# Altium schematic symbol library kmilo17pet-LT_PMIC_LT.SchLib: 2252 symbols (part 84 of 124)
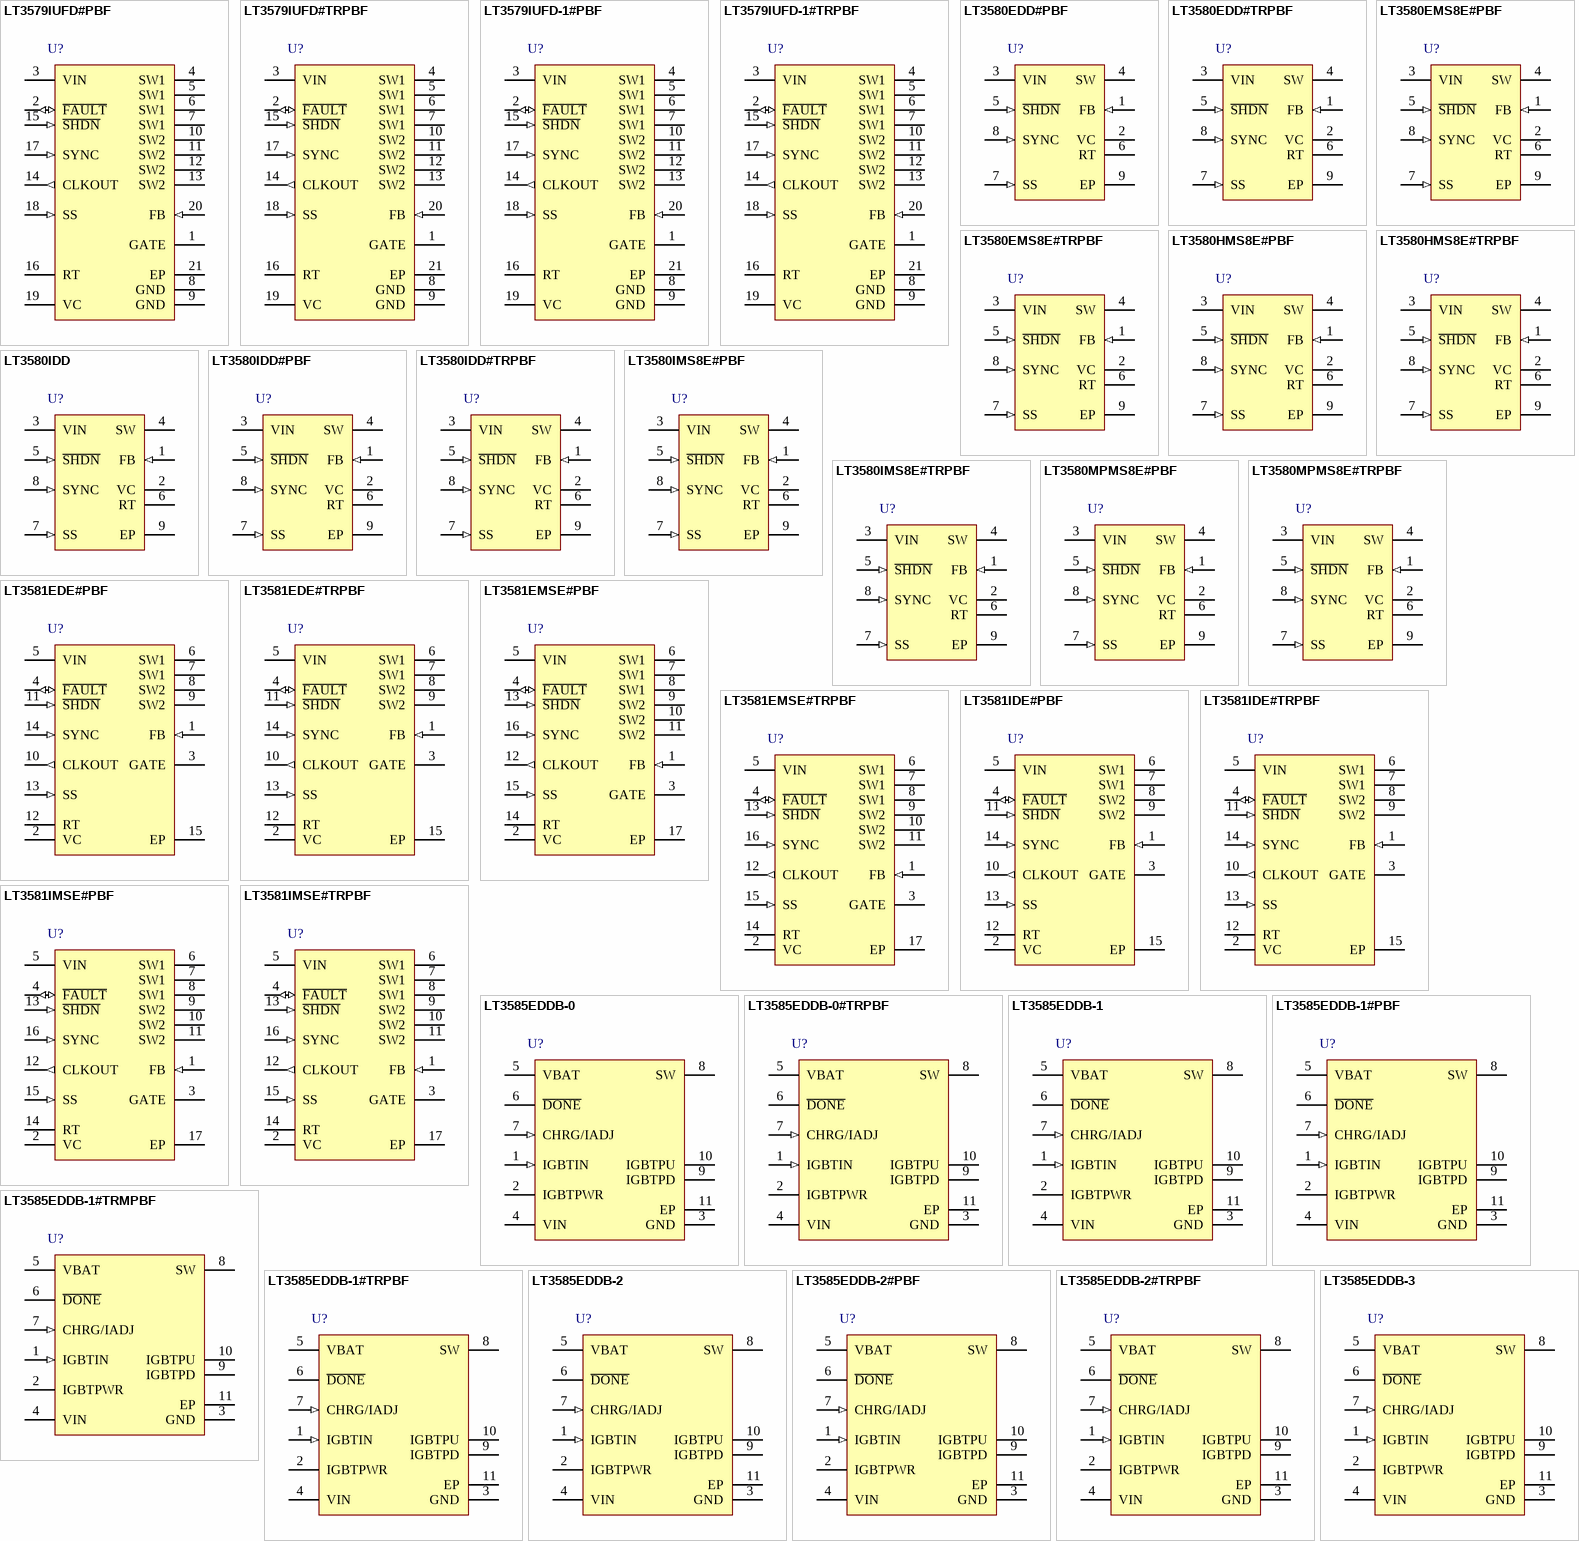
[diagram p154: symbols LT3579IUFD#PBF to LT3585EDDB-3]

## LT3585EDDB-1#TRMPBF
designator U?
Photoflash Charger with Adjustable Input Current and IGBT Driver, 10-pin SON (DDB-10), -40 to 85 degC, Pb-Free, Mini Tape and Reel; Manufacturer: Linear Technology; PartNumber: LT3585EDDB-1#TRMPBF; Number of Outputs: 1; PackageReference: DDB10; PackageDescription: 10-Pin Plastic DFN, Body 3 x 2 mm, Pitch 0.5 mm; Supplier 1: Digi-Key; Supplier Part Number 1: LT3585EDDB-1#TRMPBF-ND; RoHS: TRUE
footprint LT-DDB-10_V (SON, 10-Leads, Body 3x2mm, Pitch 0.5mm, Thermal Pad 2.39x0.64mm)
pins: 1 IGBTIN (in) "Logic Input for the IGBT Driver. When this pin is driven higher than 1.5V, the output goes high. When the pin is below 0.5V, the output will go low.", 2 IGBTPWR (power) "Supply Pin for the IGBT Driver. Must be locally bypassed with a good quality ceramic capacitor. The minimum operating voltage for the IGBT driver is 2.5V.", 3 GND (power) "Ground. Tie directly to local ground plane.", 4 VIN (power) "Input Supply Pin. Must be locally bypassed with a good quality ceramic capacitor. The minimum operating voltage for VIN is 2.5V.", 5 VBAT (power) "Battery Supply Pin. Must be locally bypassed with a good quality ceramic capacitor. The minimum operating voltage for VBAT is 1.5V.", 6 ~{DONE} (oc) "Open NPN Collector Indication Pin. When target output voltage is reached, NPN turns on. This pin needs a proper pull-up resistor or current source.", 7 CHRG/IADJ (in) "Charge and Input Current Adjust Pin. A low (<0.3V) to high (>1.1V) transition on this pin puts the part into power delivery mode. Once the target output voltage is reached, the part will stop charging the output. Toggle this (See Datasheet)", 8 SW (power) "Switch Pin. This is the collector of the internal NPN Power switch. Minimize the metal trace area connected to this pin to minimize EMI. Tie one side of the primary of the transformer to this pin. The target output voltage (See Datasheet)", 9 IGBTPD (oc) "Pull-down Output for IGBT Gate. Connect this pin to the IGBT Gate. Add a series resistor to increase the turn-off time to protect the IGBT.", 10 IGBTPU (oe) "Pull-up Output for IGBT Gate. Connect this pin to the gate of the IGBT.", 11 EP (power) "Ground. Tie directly to local ground plane."

## LT3585EDDB-1#TRPBF
designator U?
Photoflash Charger with Adjustable Input Current and IGBT Driver, 10-pin SON (DDB-10), -40 to 85 degC, Pb-Free, Tape and Reel; Manufacturer: Linear Technology; PartNumber: LT3585EDDB-1#TRPBF; Number of Outputs: 1; PackageReference: DDB10; PackageDescription: 10-Pin Plastic DFN, Body 3 x 2 mm, Pitch 0.5 mm; Supplier 1: Digi-Key; Supplier Part Number 1: LT3585EDDB-1#TRPBF-ND; RoHS: TRUE
footprint LT-DDB-10_V (SON, 10-Leads, Body 3x2mm, Pitch 0.5mm, Thermal Pad 2.39x0.64mm)
pins: 1 IGBTIN (in) "Logic Input for the IGBT Driver. When this pin is driven higher than 1.5V, the output goes high. When the pin is below 0.5V, the output will go low.", 2 IGBTPWR (power) "Supply Pin for the IGBT Driver. Must be locally bypassed with a good quality ceramic capacitor. The minimum operating voltage for the IGBT driver is 2.5V.", 3 GND (power) "Ground. Tie directly to local ground plane.", 4 VIN (power) "Input Supply Pin. Must be locally bypassed with a good quality ceramic capacitor. The minimum operating voltage for VIN is 2.5V.", 5 VBAT (power) "Battery Supply Pin. Must be locally bypassed with a good quality ceramic capacitor. The minimum operating voltage for VBAT is 1.5V.", 6 ~{DONE} (oc) "Open NPN Collector Indication Pin. When target output voltage is reached, NPN turns on. This pin needs a proper pull-up resistor or current source.", 7 CHRG/IADJ (in) "Charge and Input Current Adjust Pin. A low (<0.3V) to high (>1.1V) transition on this pin puts the part into power delivery mode. Once the target output voltage is reached, the part will stop charging the output. Toggle this (See Datasheet)", 8 SW (power) "Switch Pin. This is the collector of the internal NPN Power switch. Minimize the metal trace area connected to this pin to minimize EMI. Tie one side of the primary of the transformer to this pin. The target output voltage (See Datasheet)", 9 IGBTPD (oc) "Pull-down Output for IGBT Gate. Connect this pin to the IGBT Gate. Add a series resistor to increase the turn-off time to protect the IGBT.", 10 IGBTPU (oe) "Pull-up Output for IGBT Gate. Connect this pin to the gate of the IGBT.", 11 EP (power) "Ground. Tie directly to local ground plane."

## LT3585EDDB-2
designator U?
Photoflash Charger with Adjustable Input Current and IGBT Driver, 10-pin SON (DDB-10), -40 to 85 degC; Manufacturer: Linear Technology; PartNumber: LT3585EDDB-2; Number of Outputs: 1; PackageReference: DDB10; PackageDescription: 10-Pin Plastic DFN, Body 3 x 2 mm, Pitch 0.5 mm; RoHS: FALSE
footprint LT-DDB-10_V (SON, 10-Leads, Body 3x2mm, Pitch 0.5mm, Thermal Pad 2.39x0.64mm)
pins: 1 IGBTIN (in) "Logic Input for the IGBT Driver. When this pin is driven higher than 1.5V, the output goes high. When the pin is below 0.5V, the output will go low.", 2 IGBTPWR (power) "Supply Pin for the IGBT Driver. Must be locally bypassed with a good quality ceramic capacitor. The minimum operating voltage for the IGBT driver is 2.5V.", 3 GND (power) "Ground. Tie directly to local ground plane.", 4 VIN (power) "Input Supply Pin. Must be locally bypassed with a good quality ceramic capacitor. The minimum operating voltage for VIN is 2.5V.", 5 VBAT (power) "Battery Supply Pin. Must be locally bypassed with a good quality ceramic capacitor. The minimum operating voltage for VBAT is 1.5V.", 6 ~{DONE} (oc) "Open NPN Collector Indication Pin. When target output voltage is reached, NPN turns on. This pin needs a proper pull-up resistor or current source.", 7 CHRG/IADJ (in) "Charge and Input Current Adjust Pin. A low (<0.3V) to high (>1.1V) transition on this pin puts the part into power delivery mode. Once the target output voltage is reached, the part will stop charging the output. Toggle this (See Datasheet)", 8 SW (power) "Switch Pin. This is the collector of the internal NPN Power switch. Minimize the metal trace area connected to this pin to minimize EMI. Tie one side of the primary of the transformer to this pin. The target output voltage (See Datasheet)", 9 IGBTPD (oc) "Pull-down Output for IGBT Gate. Connect this pin to the IGBT Gate. Add a series resistor to increase the turn-off time to protect the IGBT.", 10 IGBTPU (oe) "Pull-up Output for IGBT Gate. Connect this pin to the gate of the IGBT.", 11 EP (power) "Ground. Tie directly to local ground plane."

## LT3585EDDB-2#PBF
designator U?
Photoflash Charger with Adjustable Input Current and IGBT Driver, 10-pin SON (DDB-10), -40 to 85 degC, Pb-Free; Manufacturer: Linear Technology; PartNumber: LT3585EDDB-2#PBF; Number of Outputs: 1; PackageReference: DDB10; PackageDescription: 10-Pin Plastic DFN, Body 3 x 2 mm, Pitch 0.5 mm; RoHS: TRUE
footprint LT-DDB-10_V (SON, 10-Leads, Body 3x2mm, Pitch 0.5mm, Thermal Pad 2.39x0.64mm)
pins: 1 IGBTIN (in) "Logic Input for the IGBT Driver. When this pin is driven higher than 1.5V, the output goes high. When the pin is below 0.5V, the output will go low.", 2 IGBTPWR (power) "Supply Pin for the IGBT Driver. Must be locally bypassed with a good quality ceramic capacitor. The minimum operating voltage for the IGBT driver is 2.5V.", 3 GND (power) "Ground. Tie directly to local ground plane.", 4 VIN (power) "Input Supply Pin. Must be locally bypassed with a good quality ceramic capacitor. The minimum operating voltage for VIN is 2.5V.", 5 VBAT (power) "Battery Supply Pin. Must be locally bypassed with a good quality ceramic capacitor. The minimum operating voltage for VBAT is 1.5V.", 6 ~{DONE} (oc) "Open NPN Collector Indication Pin. When target output voltage is reached, NPN turns on. This pin needs a proper pull-up resistor or current source.", 7 CHRG/IADJ (in) "Charge and Input Current Adjust Pin. A low (<0.3V) to high (>1.1V) transition on this pin puts the part into power delivery mode. Once the target output voltage is reached, the part will stop charging the output. Toggle this (See Datasheet)", 8 SW (power) "Switch Pin. This is the collector of the internal NPN Power switch. Minimize the metal trace area connected to this pin to minimize EMI. Tie one side of the primary of the transformer to this pin. The target output voltage (See Datasheet)", 9 IGBTPD (oc) "Pull-down Output for IGBT Gate. Connect this pin to the IGBT Gate. Add a series resistor to increase the turn-off time to protect the IGBT.", 10 IGBTPU (oe) "Pull-up Output for IGBT Gate. Connect this pin to the gate of the IGBT.", 11 EP (power) "Ground. Tie directly to local ground plane."

## LT3585EDDB-2#TRPBF
designator U?
Photoflash Charger with Adjustable Input Current and IGBT Driver, 10-pin SON (DDB-10), -40 to 85 degC, Pb-Free, Tape and Reel; Manufacturer: Linear Technology; PartNumber: LT3585EDDB-2#TRPBF; Number of Outputs: 1; PackageReference: DDB10; PackageDescription: 10-Pin Plastic DFN, Body 3 x 2 mm, Pitch 0.5 mm; Supplier 1: Digi-Key; Supplier Part Number 1: LT3585EDDB-2#TRPBF-ND; RoHS: TRUE
footprint LT-DDB-10_V (SON, 10-Leads, Body 3x2mm, Pitch 0.5mm, Thermal Pad 2.39x0.64mm)
pins: 1 IGBTIN (in) "Logic Input for the IGBT Driver. When this pin is driven higher than 1.5V, the output goes high. When the pin is below 0.5V, the output will go low.", 2 IGBTPWR (power) "Supply Pin for the IGBT Driver. Must be locally bypassed with a good quality ceramic capacitor. The minimum operating voltage for the IGBT driver is 2.5V.", 3 GND (power) "Ground. Tie directly to local ground plane.", 4 VIN (power) "Input Supply Pin. Must be locally bypassed with a good quality ceramic capacitor. The minimum operating voltage for VIN is 2.5V.", 5 VBAT (power) "Battery Supply Pin. Must be locally bypassed with a good quality ceramic capacitor. The minimum operating voltage for VBAT is 1.5V.", 6 ~{DONE} (oc) "Open NPN Collector Indication Pin. When target output voltage is reached, NPN turns on. This pin needs a proper pull-up resistor or current source.", 7 CHRG/IADJ (in) "Charge and Input Current Adjust Pin. A low (<0.3V) to high (>1.1V) transition on this pin puts the part into power delivery mode. Once the target output voltage is reached, the part will stop charging the output. Toggle this (See Datasheet)", 8 SW (power) "Switch Pin. This is the collector of the internal NPN Power switch. Minimize the metal trace area connected to this pin to minimize EMI. Tie one side of the primary of the transformer to this pin. The target output voltage (See Datasheet)", 9 IGBTPD (oc) "Pull-down Output for IGBT Gate. Connect this pin to the IGBT Gate. Add a series resistor to increase the turn-off time to protect the IGBT.", 10 IGBTPU (oe) "Pull-up Output for IGBT Gate. Connect this pin to the gate of the IGBT.", 11 EP (power) "Ground. Tie directly to local ground plane."

## LT3585EDDB-3
designator U?
Photoflash Charger with Adjustable Input Current and IGBT Driver, 10-pin SON (DDB-10), -40 to 85 degC; Manufacturer: Linear Technology; PartNumber: LT3585EDDB-3; Number of Outputs: 1; PackageReference: DDB10; PackageDescription: 10-Pin Plastic DFN, Body 3 x 2 mm, Pitch 0.5 mm; RoHS: FALSE
footprint LT-DDB-10_V (SON, 10-Leads, Body 3x2mm, Pitch 0.5mm, Thermal Pad 2.39x0.64mm)
pins: 1 IGBTIN (in) "Logic Input for the IGBT Driver. When this pin is driven higher than 1.5V, the output goes high. When the pin is below 0.5V, the output will go low.", 2 IGBTPWR (power) "Supply Pin for the IGBT Driver. Must be locally bypassed with a good quality ceramic capacitor. The minimum operating voltage for the IGBT driver is 2.5V.", 3 GND (power) "Ground. Tie directly to local ground plane.", 4 VIN (power) "Input Supply Pin. Must be locally bypassed with a good quality ceramic capacitor. The minimum operating voltage for VIN is 2.5V.", 5 VBAT (power) "Battery Supply Pin. Must be locally bypassed with a good quality ceramic capacitor. The minimum operating voltage for VBAT is 1.5V.", 6 ~{DONE} (oc) "Open NPN Collector Indication Pin. When target output voltage is reached, NPN turns on. This pin needs a proper pull-up resistor or current source.", 7 CHRG/IADJ (in) "Charge and Input Current Adjust Pin. A low (<0.3V) to high (>1.1V) transition on this pin puts the part into power delivery mode. Once the target output voltage is reached, the part will stop charging the output. Toggle this (See Datasheet)", 8 SW (power) "Switch Pin. This is the collector of the internal NPN Power switch. Minimize the metal trace area connected to this pin to minimize EMI. Tie one side of the primary of the transformer to this pin. The target output voltage (See Datasheet)", 9 IGBTPD (oc) "Pull-down Output for IGBT Gate. Connect this pin to the IGBT Gate. Add a series resistor to increase the turn-off time to protect the IGBT.", 10 IGBTPU (oe) "Pull-up Output for IGBT Gate. Connect this pin to the gate of the IGBT.", 11 EP (power) "Ground. Tie directly to local ground plane."

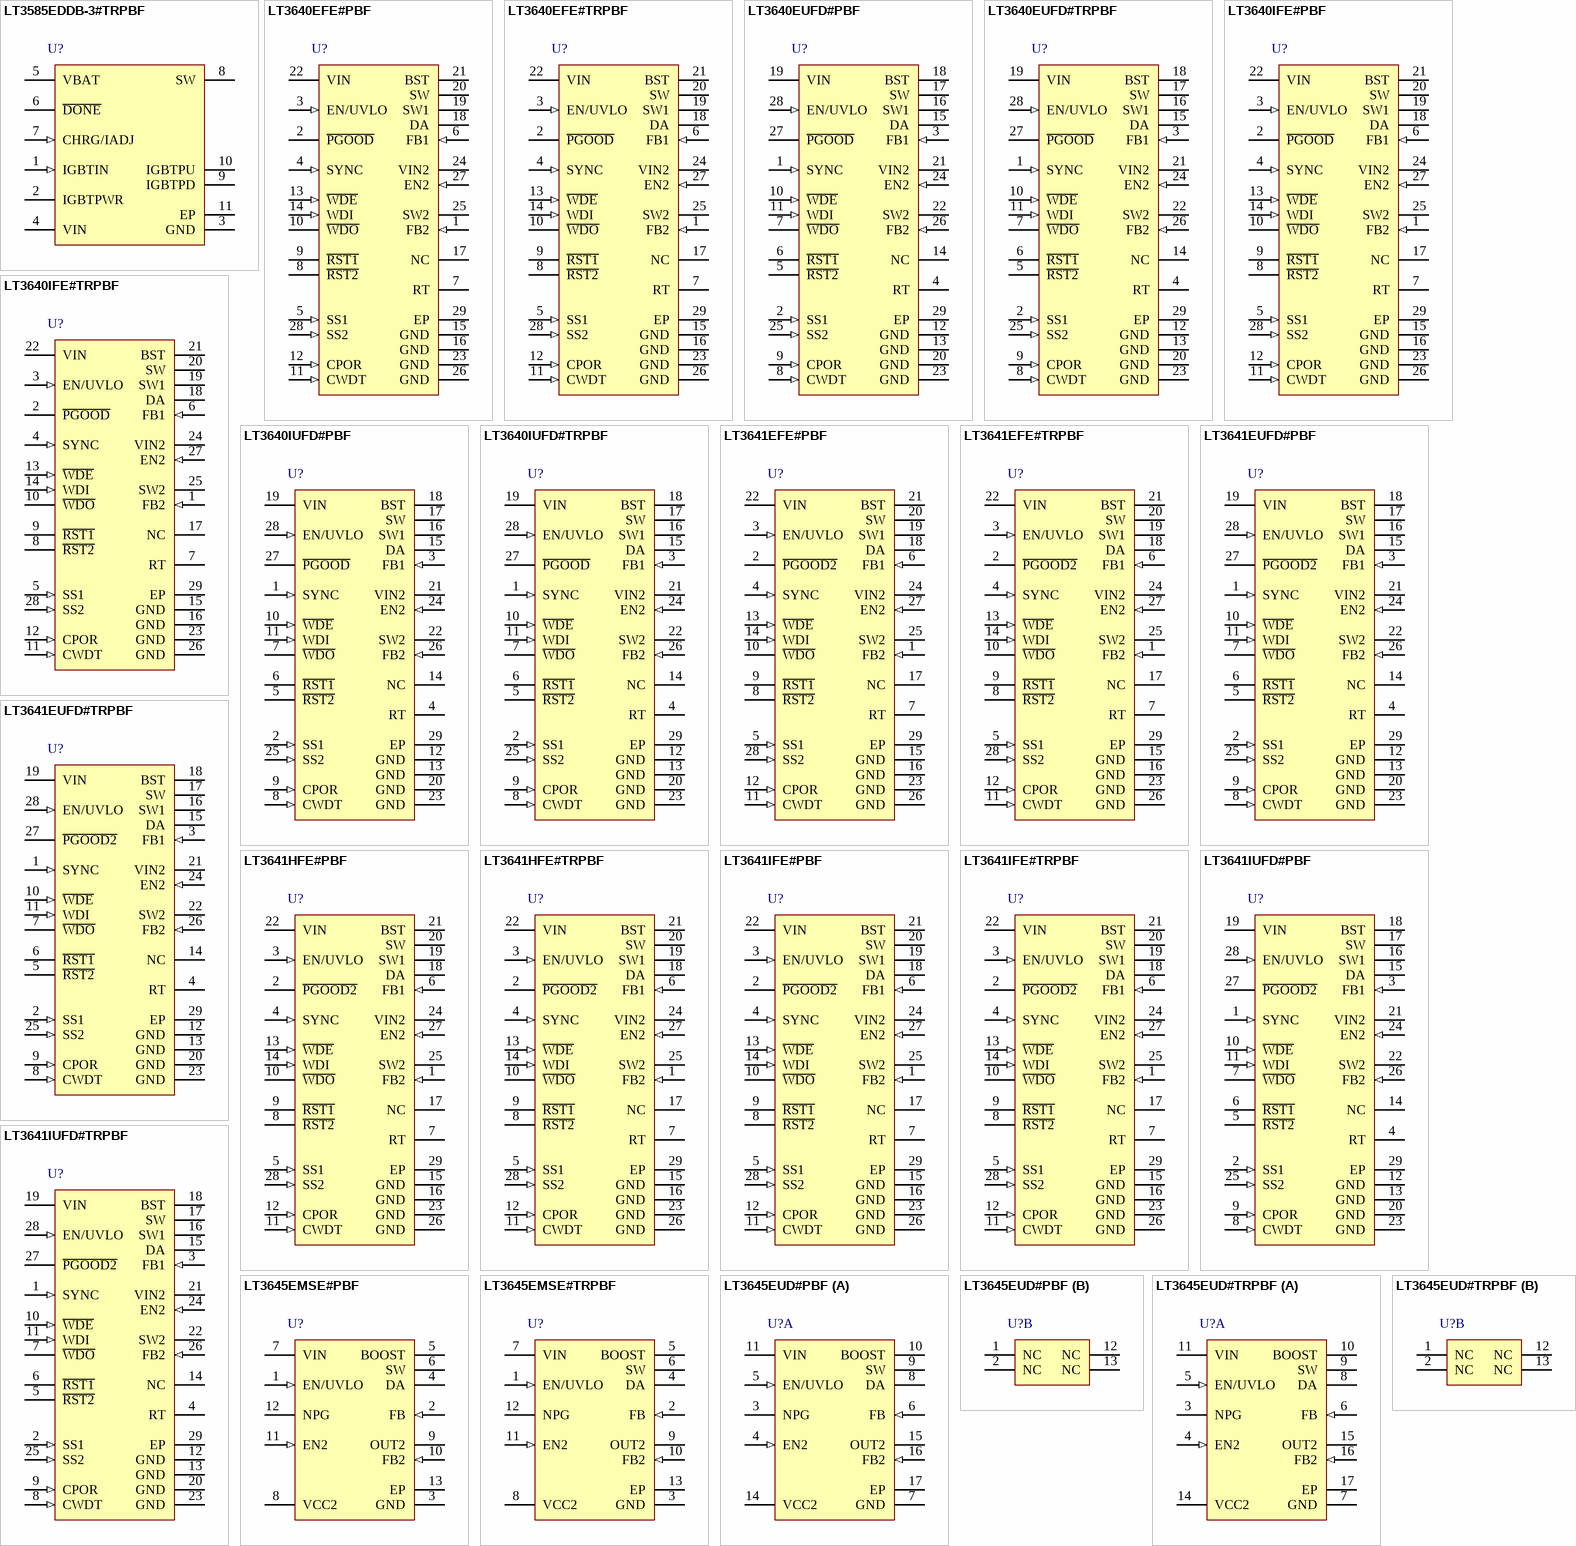
[diagram p50: symbols LT3585EDDB-3#TRPBF to LT3645EUD#TRPBF]

## LT3585EDDB-3#TRPBF
designator U?
Photoflash Charger with Adjustable Input Current and IGBT Driver, 10-pin SON (DDB-10), -40 to 85 degC, Pb-Free, Tape and Reel; Manufacturer: Linear Technology; PartNumber: LT3585EDDB-3#TRPBF; Number of Outputs: 1; PackageReference: DDB10; PackageDescription: 10-Pin Plastic DFN, Body 3 x 2 mm, Pitch 0.5 mm; Supplier 1: Digi-Key; Supplier Part Number 1: LT3585EDDB-3#TRPBF-ND; RoHS: TRUE
footprint LT-DDB-10_V (SON, 10-Leads, Body 3x2mm, Pitch 0.5mm, Thermal Pad 2.39x0.64mm)
pins: 1 IGBTIN (in) "Logic Input for the IGBT Driver. When this pin is driven higher than 1.5V, the output goes high. When the pin is below 0.5V, the output will go low.", 2 IGBTPWR (power) "Supply Pin for the IGBT Driver. Must be locally bypassed with a good quality ceramic capacitor. The minimum operating voltage for the IGBT driver is 2.5V.", 3 GND (power) "Ground. Tie directly to local ground plane.", 4 VIN (power) "Input Supply Pin. Must be locally bypassed with a good quality ceramic capacitor. The minimum operating voltage for VIN is 2.5V.", 5 VBAT (power) "Battery Supply Pin. Must be locally bypassed with a good quality ceramic capacitor. The minimum operating voltage for VBAT is 1.5V.", 6 ~{DONE} (oc) "Open NPN Collector Indication Pin. When target output voltage is reached, NPN turns on. This pin needs a proper pull-up resistor or current source.", 7 CHRG/IADJ (in) "Charge and Input Current Adjust Pin. A low (<0.3V) to high (>1.1V) transition on this pin puts the part into power delivery mode. Once the target output voltage is reached, the part will stop charging the output. Toggle this (See Datasheet)", 8 SW (power) "Switch Pin. This is the collector of the internal NPN Power switch. Minimize the metal trace area connected to this pin to minimize EMI. Tie one side of the primary of the transformer to this pin. The target output voltage (See Datasheet)", 9 IGBTPD (oc) "Pull-down Output for IGBT Gate. Connect this pin to the IGBT Gate. Add a series resistor to increase the turn-off time to protect the IGBT.", 10 IGBTPU (oe) "Pull-up Output for IGBT Gate. Connect this pin to the gate of the IGBT.", 11 EP (power) "Ground. Tie directly to local ground plane."

## LT3640EFE#PBF
designator U?
Dual Monolithic Buck Regulator with Power-On Reset and Watchdog Timer, 28-pin SOP (FE-28-EPV-EB), -40 to 125 degC, Pb-Free; Manufacturer: Linear Technology; PartNumber: LT3640EFE#PBF; Number of Outputs: 2; PackageReference: FE-28; PackageDescription: 28-Pin Plastic TSSOP, Body 9.7 x 4.4 mm, Pitch 0.65 mm; Supplier 1: Digi-Key; Supplier Part Number 1: LT3640EFE#PBF-ND; RoHS: TRUE
footprint LT-FE-28-EPV-EB_N (SOP, 28-Leads, Body 9.8x4.5mm, Pitch 0.65mm, Thermal Pad 4.75x2.74mm, IPC Medium Density)
footprint LT-FE-28-EPV-EB_L (SOP, 28-Leads, Body 9.8x4.5mm, Pitch 0.65mm, Thermal Pad 4.75x2.74mm, IPC High Density)
footprint LT-FE-28-EPV-EB_M (SOP, 28-Leads, Body 9.8x4.5mm, Pitch 0.65mm, Thermal Pad 4.75x2.74mm, IPC Low Density)
pins: 1 FB2 (in) "The low voltage converter regulates the FB2 pin to 600mV. Connect the feedback resistor divider tap to this pin to set output voltage.", 2 ~{PGOOD} (oc) "Open-drain logic output that starts to sink current when FB2 is in regulation.", 3 EN/UVLO (in) "Pull this pin below 0.3V to shut down the LT3640. The 1.26V threshold can function as an accurate undervoltage lockout, preventing the LT3640 from operating until VIN voltage has reached the programmed level.", 4 SYNC (in) "Driving the SYNC pin with an external clock signal synchronizes both converters to the applied frequency. The lowest external clock frequency should be 20% higher than the internal oscillator frequency.", 5 SS1 (in) "The SS1 pin sets the FB1 voltage externally between 0V and 1.265V, providing soft-start and tracking. Tie this pin 1.5V or higher to use the internal 1.265V reference. A capacitor to ground at this pin sets the ramp time to (See Datasheet)", 6 FB1 (in) "The high voltage converter regulates the FB1 pin to 1.265V. Connect the feedback resistor divider tap to this pin to set output voltage.", 7 RT "Oscillator Resistor Input. Connecting a resistor to ground from this pin sets the internal oscillator frequency.", 8 ~{RST2} (oc) "Open-drain logic output that remains asserted for the period set by the CPOR pin capacitor after FB2 goes above 550mV.", 9 ~{RST1} (oc) "Open-drain logic output that remains asserted for the period set by the CPOR pin capacitor after FB1 goes above 1.165V.", 10 ~{WDO} (oc) "Open-drain logic output that remains asserted for the period set by the CPOR pin capacitor if W\D\E\ is enabled and WDI pin is not driven by an appropriate signal.", 11 CWDT (in) "Connect a capacitor to ground at this pin to set watchdog timer.", 12 CPOR (in) "Connect a capacitor to ground at this pin to set the power-on reset timer and W\D\O\ output timer.", 13 ~{WDE} (in) "Watchdog Enable Pin.", 14 WDI (in) "The WDI pin receives watchdog signals from a microprocessor.", 15 GND (power) "Ground. These pins must be soldered to PCB ground.", 16 GND (power) "Ground. These pins must be soldered to PCB ground.", 17 NC "Not Connected. This pin can be connected to ground.", 18 DA "The DA pin is used to sense the catch diode current for current limit and protection. Connect this pin to catch diode anode.", 19 SW1 (power) "Output of the High Voltage Internal Power Switch. Connect this pin to the inductor and catch diode cathode.", 20 SW "The SW pin is used to charge the boost capacitor. Connect this pin to the boost capacitor.", 21 BST "The BST pin is used to provide a drive voltage, higher than VIN pin voltage, to the high voltage channel internal power switch. Connect an external boost diode to this pin.", 22 VIN (power) "The VIN pin supplies current to the LT3640’s internal circuitry and to the high voltage channel internal power switch. This pin must be locally bypassed.", 23 GND (power) "Ground. These pins must be soldered to PCB ground.", 24 VIN2 (power) "The VIN2 pin supplies current to the internal power MOSFET of the low voltage converter and to the LT3640’s internal circuitry when VIN2 is above 3V.", 25 SW2 (power) "Switch Node of the Low Voltage Converter. Connect this pin to an inductor.", 26 GND (power) "Ground. These pins must be soldered to PCB ground.", 27 EN2 (in) "Low Voltage Converter Enable Pin. Pull this pin below 0.3V to shut down the low voltage converter. Pull this pin above 1.5V to enable the low voltage converter.", 28 SS2 (in) "The SS2 pin sets the FB2 voltage externally between 0V and 0.6V, providing soft-start and tracking. Tie this pin 0.8V or higher to use the internal 0.6V reference. A capacitor to ground at this pin sets the ramp time to (See Datasheet)", 29 EP (power) "Ground. These pins must be soldered to PCB ground."

## LT3640EFE#TRPBF
designator U?
Dual Monolithic Buck Regulator with Power-On Reset and Watchdog Timer, 28-pin SOP (FE-28-EPV-EB), -40 to 125 degC, Pb-Free, Tape and Reel; Manufacturer: Linear Technology; PartNumber: LT3640EFE#TRPBF; Number of Outputs: 2; PackageReference: FE-28; PackageDescription: 28-Pin Plastic TSSOP, Body 9.7 x 4.4 mm, Pitch 0.65 mm; Supplier 1: Digi-Key; Supplier Part Number 1: LT3640EFE#TRPBF-ND; RoHS: TRUE
footprint LT-FE-28-EPV-EB_N (SOP, 28-Leads, Body 9.8x4.5mm, Pitch 0.65mm, Thermal Pad 4.75x2.74mm, IPC Medium Density)
footprint LT-FE-28-EPV-EB_L (SOP, 28-Leads, Body 9.8x4.5mm, Pitch 0.65mm, Thermal Pad 4.75x2.74mm, IPC High Density)
footprint LT-FE-28-EPV-EB_M (SOP, 28-Leads, Body 9.8x4.5mm, Pitch 0.65mm, Thermal Pad 4.75x2.74mm, IPC Low Density)
pins: 1 FB2 (in) "The low voltage converter regulates the FB2 pin to 600mV. Connect the feedback resistor divider tap to this pin to set output voltage.", 2 ~{PGOOD} (oc) "Open-drain logic output that starts to sink current when FB2 is in regulation.", 3 EN/UVLO (in) "Pull this pin below 0.3V to shut down the LT3640. The 1.26V threshold can function as an accurate undervoltage lockout, preventing the LT3640 from operating until VIN voltage has reached the programmed level.", 4 SYNC (in) "Driving the SYNC pin with an external clock signal synchronizes both converters to the applied frequency. The lowest external clock frequency should be 20% higher than the internal oscillator frequency.", 5 SS1 (in) "The SS1 pin sets the FB1 voltage externally between 0V and 1.265V, providing soft-start and tracking. Tie this pin 1.5V or higher to use the internal 1.265V reference. A capacitor to ground at this pin sets the ramp time to (See Datasheet)", 6 FB1 (in) "The high voltage converter regulates the FB1 pin to 1.265V. Connect the feedback resistor divider tap to this pin to set output voltage.", 7 RT "Oscillator Resistor Input. Connecting a resistor to ground from this pin sets the internal oscillator frequency.", 8 ~{RST2} (oc) "Open-drain logic output that remains asserted for the period set by the CPOR pin capacitor after FB2 goes above 550mV.", 9 ~{RST1} (oc) "Open-drain logic output that remains asserted for the period set by the CPOR pin capacitor after FB1 goes above 1.165V.", 10 ~{WDO} (oc) "Open-drain logic output that remains asserted for the period set by the CPOR pin capacitor if W\D\E\ is enabled and WDI pin is not driven by an appropriate signal.", 11 CWDT (in) "Connect a capacitor to ground at this pin to set watchdog timer.", 12 CPOR (in) "Connect a capacitor to ground at this pin to set the power-on reset timer and W\D\O\ output timer.", 13 ~{WDE} (in) "Watchdog Enable Pin.", 14 WDI (in) "The WDI pin receives watchdog signals from a microprocessor.", 15 GND (power) "Ground. These pins must be soldered to PCB ground.", 16 GND (power) "Ground. These pins must be soldered to PCB ground.", 17 NC "Not Connected. This pin can be connected to ground.", 18 DA "The DA pin is used to sense the catch diode current for current limit and protection. Connect this pin to catch diode anode.", 19 SW1 (power) "Output of the High Voltage Internal Power Switch. Connect this pin to the inductor and catch diode cathode.", 20 SW "The SW pin is used to charge the boost capacitor. Connect this pin to the boost capacitor.", 21 BST "The BST pin is used to provide a drive voltage, higher than VIN pin voltage, to the high voltage channel internal power switch. Connect an external boost diode to this pin.", 22 VIN (power) "The VIN pin supplies current to the LT3640’s internal circuitry and to the high voltage channel internal power switch. This pin must be locally bypassed.", 23 GND (power) "Ground. These pins must be soldered to PCB ground.", 24 VIN2 (power) "The VIN2 pin supplies current to the internal power MOSFET of the low voltage converter and to the LT3640’s internal circuitry when VIN2 is above 3V.", 25 SW2 (power) "Switch Node of the Low Voltage Converter. Connect this pin to an inductor.", 26 GND (power) "Ground. These pins must be soldered to PCB ground.", 27 EN2 (in) "Low Voltage Converter Enable Pin. Pull this pin below 0.3V to shut down the low voltage converter. Pull this pin above 1.5V to enable the low voltage converter.", 28 SS2 (in) "The SS2 pin sets the FB2 voltage externally between 0V and 0.6V, providing soft-start and tracking. Tie this pin 0.8V or higher to use the internal 0.6V reference. A capacitor to ground at this pin sets the ramp time to (See Datasheet)", 29 EP (power) "Ground. These pins must be soldered to PCB ground."

## LT3640EUFD#PBF
designator U?
Dual Monolithic Buck Regulator with Power-On Reset and Watchdog Timer, 28-pin QFN (UFD-28), -40 to 125 degC, Pb-Free; Manufacturer: Linear Technology; PartNumber: LT3640EUFD#PBF; Number of Outputs: 2; PackageReference: UFD-28; PackageDescription: 28-Pin Plastic QFN, Body 5 x 4 mm, Pitch 0.5 mm; Supplier 1: Digi-Key; Supplier Part Number 1: LT3640EUFD#PBF-ND; RoHS: TRUE
footprint LT-UFD-28_N (QFN, 28-Leads, Body 5.1x4.1mm, Pitch 0.5mm, Thermal Pad 3.65x2.65mm, IPC Medium Density)
footprint LT-UFD-28_L (QFN, 28-Leads, Body 5.1x4.1mm, Pitch 0.5mm, Thermal Pad 3.65x2.65mm, IPC High Density)
footprint LT-UFD-28_M (QFN, 28-Leads, Body 5.1x4.1mm, Pitch 0.5mm, Thermal Pad 3.65x2.65mm, IPC Low Density)
pins: 1 SYNC (in) "Driving the SYNC pin with an external clock signal synchronizes both converters to the applied frequency. The lowest external clock frequency should be 20% higher than the internal oscillator frequency.", 2 SS1 (in) "The SS1 pin sets the FB1 voltage externally between 0V and 1.265V, providing soft-start and tracking. Tie this pin 1.5V or higher to use the internal 1.265V reference. A capacitor to ground at this pin sets the ramp time to (See Datasheet)", 3 FB1 (in) "The high voltage converter regulates the FB1 pin to 1.265V. Connect the feedback resistor divider tap to this pin to set output voltage.", 4 RT "Oscillator Resistor Input. Connecting a resistor to ground from this pin sets the internal oscillator frequency.", 5 ~{RST2} (oc) "Open-drain logic output that remains asserted for the period set by the CPOR pin capacitor after FB2 goes above 550mV.", 6 ~{RST1} (oc) "Open-drain logic output that remains asserted for the period set by the CPOR pin capacitor after FB1 goes above 1.165V.", 7 ~{WDO} (oc) "Open-drain logic output that remains asserted for the period set by the CPOR pin capacitor if W\D\E\ is enabled and WDI pin is not driven by an appropriate signal.", 8 CWDT (in) "Connect a capacitor to ground at this pin to set watchdog timer.", 9 CPOR (in) "Connect a capacitor to ground at this pin to set the power-on reset timer and W\D\O\ output timer.", 10 ~{WDE} (in) "Watchdog Enable Pin.", 11 WDI (in) "The WDI pin receives watchdog signals from a microprocessor.", 12 GND (power) "Ground. These pins must be soldered to PCB ground.", 13 GND (power) "Ground. These pins must be soldered to PCB ground.", 14 NC "Not Connected. This pin can be connected to ground.", 15 DA "The DA pin is used to sense the catch diode current for current limit and protection. Connect this pin to catch diode anode.", 16 SW1 (power) "Output of the High Voltage Internal Power Switch. Connect this pin to the inductor and catch diode cathode.", 17 SW "The SW pin is used to charge the boost capacitor. Connect this pin to the boost capacitor.", 18 BST "The BST pin is used to provide a drive voltage, higher than VIN pin voltage, to the high voltage channel internal power switch. Connect an external boost diode to this pin.", 19 VIN (power) "The VIN pin supplies current to the LT3640’s internal circuitry and to the high voltage channel internal power switch. This pin must be locally bypassed.", 20 GND (power) "Ground. These pins must be soldered to PCB ground.", 21 VIN2 (power) "The VIN2 pin supplies current to the internal power MOSFET of the low voltage converter and to the LT3640’s internal circuitry when VIN2 is above 3V.", 22 SW2 (power) "Switch Node of the Low Voltage Converter. Connect this pin to an inductor.", 23 GND (power) "Ground. These pins must be soldered to PCB ground.", 24 EN2 (in) "Low Voltage Converter Enable Pin. Pull this pin below 0.3V to shut down the low voltage converter. Pull this pin above 1.5V to enable the low voltage converter.", 25 SS2 (in) "The SS2 pin sets the FB2 voltage externally between 0V and 0.6V, providing soft-start and tracking. Tie this pin 0.8V or higher to use the internal 0.6V reference. A capacitor to ground at this pin sets the ramp time to (See Datasheet)", 26 FB2 (in) "The low voltage converter regulates the FB2 pin to 600mV. Connect the feedback resistor divider tap to this pin to set output voltage.", 27 ~{PGOOD} (oc) "Open-drain logic output that starts to sink current when FB2 is in regulation.", 28 EN/UVLO (in) "Pull this pin below 0.3V to shut down the LT3640. The 1.26V threshold can function as an accurate undervoltage lockout, preventing the LT3640 from operating until VIN voltage has reached the programmed level.", 29 EP (power) "Ground. These pins must be soldered to PCB ground."

## LT3640EUFD#TRPBF
designator U?
Dual Monolithic Buck Regulator with Power-On Reset and Watchdog Timer, 28-pin QFN (UFD-28), -40 to 125 degC, Pb-Free, Tape and Reel; Manufacturer: Linear Technology; PartNumber: LT3640EUFD#TRPBF; Number of Outputs: 2; PackageReference: UFD-28; PackageDescription: 28-Pin Plastic QFN, Body 5 x 4 mm, Pitch 0.5 mm; Supplier 1: Digi-Key; Supplier Part Number 1: LT3640EUFD#TRPBF-ND; RoHS: TRUE
footprint LT-UFD-28_N (QFN, 28-Leads, Body 5.1x4.1mm, Pitch 0.5mm, Thermal Pad 3.65x2.65mm, IPC Medium Density)
footprint LT-UFD-28_L (QFN, 28-Leads, Body 5.1x4.1mm, Pitch 0.5mm, Thermal Pad 3.65x2.65mm, IPC High Density)
footprint LT-UFD-28_M (QFN, 28-Leads, Body 5.1x4.1mm, Pitch 0.5mm, Thermal Pad 3.65x2.65mm, IPC Low Density)
pins: 1 SYNC (in) "Driving the SYNC pin with an external clock signal synchronizes both converters to the applied frequency. The lowest external clock frequency should be 20% higher than the internal oscillator frequency.", 2 SS1 (in) "The SS1 pin sets the FB1 voltage externally between 0V and 1.265V, providing soft-start and tracking. Tie this pin 1.5V or higher to use the internal 1.265V reference. A capacitor to ground at this pin sets the ramp time to (See Datasheet)", 3 FB1 (in) "The high voltage converter regulates the FB1 pin to 1.265V. Connect the feedback resistor divider tap to this pin to set output voltage.", 4 RT "Oscillator Resistor Input. Connecting a resistor to ground from this pin sets the internal oscillator frequency.", 5 ~{RST2} (oc) "Open-drain logic output that remains asserted for the period set by the CPOR pin capacitor after FB2 goes above 550mV.", 6 ~{RST1} (oc) "Open-drain logic output that remains asserted for the period set by the CPOR pin capacitor after FB1 goes above 1.165V.", 7 ~{WDO} (oc) "Open-drain logic output that remains asserted for the period set by the CPOR pin capacitor if W\D\E\ is enabled and WDI pin is not driven by an appropriate signal.", 8 CWDT (in) "Connect a capacitor to ground at this pin to set watchdog timer.", 9 CPOR (in) "Connect a capacitor to ground at this pin to set the power-on reset timer and W\D\O\ output timer.", 10 ~{WDE} (in) "Watchdog Enable Pin.", 11 WDI (in) "The WDI pin receives watchdog signals from a microprocessor.", 12 GND (power) "Ground. These pins must be soldered to PCB ground.", 13 GND (power) "Ground. These pins must be soldered to PCB ground.", 14 NC "Not Connected. This pin can be connected to ground.", 15 DA "The DA pin is used to sense the catch diode current for current limit and protection. Connect this pin to catch diode anode.", 16 SW1 (power) "Output of the High Voltage Internal Power Switch. Connect this pin to the inductor and catch diode cathode.", 17 SW "The SW pin is used to charge the boost capacitor. Connect this pin to the boost capacitor.", 18 BST "The BST pin is used to provide a drive voltage, higher than VIN pin voltage, to the high voltage channel internal power switch. Connect an external boost diode to this pin.", 19 VIN (power) "The VIN pin supplies current to the LT3640’s internal circuitry and to the high voltage channel internal power switch. This pin must be locally bypassed.", 20 GND (power) "Ground. These pins must be soldered to PCB ground.", 21 VIN2 (power) "The VIN2 pin supplies current to the internal power MOSFET of the low voltage converter and to the LT3640’s internal circuitry when VIN2 is above 3V.", 22 SW2 (power) "Switch Node of the Low Voltage Converter. Connect this pin to an inductor.", 23 GND (power) "Ground. These pins must be soldered to PCB ground.", 24 EN2 (in) "Low Voltage Converter Enable Pin. Pull this pin below 0.3V to shut down the low voltage converter. Pull this pin above 1.5V to enable the low voltage converter.", 25 SS2 (in) "The SS2 pin sets the FB2 voltage externally between 0V and 0.6V, providing soft-start and tracking. Tie this pin 0.8V or higher to use the internal 0.6V reference. A capacitor to ground at this pin sets the ramp time to (See Datasheet)", 26 FB2 (in) "The low voltage converter regulates the FB2 pin to 600mV. Connect the feedback resistor divider tap to this pin to set output voltage.", 27 ~{PGOOD} (oc) "Open-drain logic output that starts to sink current when FB2 is in regulation.", 28 EN/UVLO (in) "Pull this pin below 0.3V to shut down the LT3640. The 1.26V threshold can function as an accurate undervoltage lockout, preventing the LT3640 from operating until VIN voltage has reached the programmed level.", 29 EP (power) "Ground. These pins must be soldered to PCB ground."

## LT3640IFE#PBF
designator U?
Dual Monolithic Buck Regulator with Power-On Reset and Watchdog Timer, 28-pin SOP (FE-28-EPV-EB), -40 to 125 degC, Pb-Free; Manufacturer: Linear Technology; PartNumber: LT3640IFE#PBF; Number of Outputs: 2; PackageReference: FE-28; PackageDescription: 28-Pin Plastic TSSOP, Body 9.7 x 4.4 mm, Pitch 0.65 mm; Supplier 1: Digi-Key; Supplier Part Number 1: LT3640IFE#PBF-ND; RoHS: TRUE
footprint LT-FE-28-EPV-EB_N (SOP, 28-Leads, Body 9.8x4.5mm, Pitch 0.65mm, Thermal Pad 4.75x2.74mm, IPC Medium Density)
footprint LT-FE-28-EPV-EB_L (SOP, 28-Leads, Body 9.8x4.5mm, Pitch 0.65mm, Thermal Pad 4.75x2.74mm, IPC High Density)
footprint LT-FE-28-EPV-EB_M (SOP, 28-Leads, Body 9.8x4.5mm, Pitch 0.65mm, Thermal Pad 4.75x2.74mm, IPC Low Density)
pins: 1 FB2 (in) "The low voltage converter regulates the FB2 pin to 600mV. Connect the feedback resistor divider tap to this pin to set output voltage.", 2 ~{PGOOD} (oc) "Open-drain logic output that starts to sink current when FB2 is in regulation.", 3 EN/UVLO (in) "Pull this pin below 0.3V to shut down the LT3640. The 1.26V threshold can function as an accurate undervoltage lockout, preventing the LT3640 from operating until VIN voltage has reached the programmed level.", 4 SYNC (in) "Driving the SYNC pin with an external clock signal synchronizes both converters to the applied frequency. The lowest external clock frequency should be 20% higher than the internal oscillator frequency.", 5 SS1 (in) "The SS1 pin sets the FB1 voltage externally between 0V and 1.265V, providing soft-start and tracking. Tie this pin 1.5V or higher to use the internal 1.265V reference. A capacitor to ground at this pin sets the ramp time to (See Datasheet)", 6 FB1 (in) "The high voltage converter regulates the FB1 pin to 1.265V. Connect the feedback resistor divider tap to this pin to set output voltage.", 7 RT "Oscillator Resistor Input. Connecting a resistor to ground from this pin sets the internal oscillator frequency.", 8 ~{RST2} (oc) "Open-drain logic output that remains asserted for the period set by the CPOR pin capacitor after FB2 goes above 550mV.", 9 ~{RST1} (oc) "Open-drain logic output that remains asserted for the period set by the CPOR pin capacitor after FB1 goes above 1.165V.", 10 ~{WDO} (oc) "Open-drain logic output that remains asserted for the period set by the CPOR pin capacitor if W\D\E\ is enabled and WDI pin is not driven by an appropriate signal.", 11 CWDT (in) "Connect a capacitor to ground at this pin to set watchdog timer.", 12 CPOR (in) "Connect a capacitor to ground at this pin to set the power-on reset timer and W\D\O\ output timer.", 13 ~{WDE} (in) "Watchdog Enable Pin.", 14 WDI (in) "The WDI pin receives watchdog signals from a microprocessor.", 15 GND (power) "Ground. These pins must be soldered to PCB ground.", 16 GND (power) "Ground. These pins must be soldered to PCB ground.", 17 NC "Not Connected. This pin can be connected to ground.", 18 DA "The DA pin is used to sense the catch diode current for current limit and protection. Connect this pin to catch diode anode.", 19 SW1 (power) "Output of the High Voltage Internal Power Switch. Connect this pin to the inductor and catch diode cathode.", 20 SW "The SW pin is used to charge the boost capacitor. Connect this pin to the boost capacitor.", 21 BST "The BST pin is used to provide a drive voltage, higher than VIN pin voltage, to the high voltage channel internal power switch. Connect an external boost diode to this pin.", 22 VIN (power) "The VIN pin supplies current to the LT3640’s internal circuitry and to the high voltage channel internal power switch. This pin must be locally bypassed.", 23 GND (power) "Ground. These pins must be soldered to PCB ground.", 24 VIN2 (power) "The VIN2 pin supplies current to the internal power MOSFET of the low voltage converter and to the LT3640’s internal circuitry when VIN2 is above 3V.", 25 SW2 (power) "Switch Node of the Low Voltage Converter. Connect this pin to an inductor.", 26 GND (power) "Ground. These pins must be soldered to PCB ground.", 27 EN2 (in) "Low Voltage Converter Enable Pin. Pull this pin below 0.3V to shut down the low voltage converter. Pull this pin above 1.5V to enable the low voltage converter.", 28 SS2 (in) "The SS2 pin sets the FB2 voltage externally between 0V and 0.6V, providing soft-start and tracking. Tie this pin 0.8V or higher to use the internal 0.6V reference. A capacitor to ground at this pin sets the ramp time to (See Datasheet)", 29 EP (power) "Ground. These pins must be soldered to PCB ground."

## LT3640IFE#TRPBF
designator U?
Dual Monolithic Buck Regulator with Power-On Reset and Watchdog Timer, 28-pin SOP (FE-28-EPV-EB), -40 to 125 degC, Pb-Free, Tape and Reel; Manufacturer: Linear Technology; PartNumber: LT3640IFE#TRPBF; Number of Outputs: 2; PackageReference: FE-28; PackageDescription: 28-Pin Plastic TSSOP, Body 9.7 x 4.4 mm, Pitch 0.65 mm; Supplier 1: Digi-Key; Supplier Part Number 1: LT3640IFE#TRPBF-ND; RoHS: TRUE
footprint LT-FE-28-EPV-EB_N (SOP, 28-Leads, Body 9.8x4.5mm, Pitch 0.65mm, Thermal Pad 4.75x2.74mm, IPC Medium Density)
footprint LT-FE-28-EPV-EB_L (SOP, 28-Leads, Body 9.8x4.5mm, Pitch 0.65mm, Thermal Pad 4.75x2.74mm, IPC High Density)
footprint LT-FE-28-EPV-EB_M (SOP, 28-Leads, Body 9.8x4.5mm, Pitch 0.65mm, Thermal Pad 4.75x2.74mm, IPC Low Density)
pins: 1 FB2 (in) "The low voltage converter regulates the FB2 pin to 600mV. Connect the feedback resistor divider tap to this pin to set output voltage.", 2 ~{PGOOD} (oc) "Open-drain logic output that starts to sink current when FB2 is in regulation.", 3 EN/UVLO (in) "Pull this pin below 0.3V to shut down the LT3640. The 1.26V threshold can function as an accurate undervoltage lockout, preventing the LT3640 from operating until VIN voltage has reached the programmed level.", 4 SYNC (in) "Driving the SYNC pin with an external clock signal synchronizes both converters to the applied frequency. The lowest external clock frequency should be 20% higher than the internal oscillator frequency.", 5 SS1 (in) "The SS1 pin sets the FB1 voltage externally between 0V and 1.265V, providing soft-start and tracking. Tie this pin 1.5V or higher to use the internal 1.265V reference. A capacitor to ground at this pin sets the ramp time to (See Datasheet)", 6 FB1 (in) "The high voltage converter regulates the FB1 pin to 1.265V. Connect the feedback resistor divider tap to this pin to set output voltage.", 7 RT "Oscillator Resistor Input. Connecting a resistor to ground from this pin sets the internal oscillator frequency.", 8 ~{RST2} (oc) "Open-drain logic output that remains asserted for the period set by the CPOR pin capacitor after FB2 goes above 550mV.", 9 ~{RST1} (oc) "Open-drain logic output that remains asserted for the period set by the CPOR pin capacitor after FB1 goes above 1.165V.", 10 ~{WDO} (oc) "Open-drain logic output that remains asserted for the period set by the CPOR pin capacitor if W\D\E\ is enabled and WDI pin is not driven by an appropriate signal.", 11 CWDT (in) "Connect a capacitor to ground at this pin to set watchdog timer.", 12 CPOR (in) "Connect a capacitor to ground at this pin to set the power-on reset timer and W\D\O\ output timer.", 13 ~{WDE} (in) "Watchdog Enable Pin.", 14 WDI (in) "The WDI pin receives watchdog signals from a microprocessor.", 15 GND (power) "Ground. These pins must be soldered to PCB ground.", 16 GND (power) "Ground. These pins must be soldered to PCB ground.", 17 NC "Not Connected. This pin can be connected to ground.", 18 DA "The DA pin is used to sense the catch diode current for current limit and protection. Connect this pin to catch diode anode.", 19 SW1 (power) "Output of the High Voltage Internal Power Switch. Connect this pin to the inductor and catch diode cathode.", 20 SW "The SW pin is used to charge the boost capacitor. Connect this pin to the boost capacitor.", 21 BST "The BST pin is used to provide a drive voltage, higher than VIN pin voltage, to the high voltage channel internal power switch. Connect an external boost diode to this pin.", 22 VIN (power) "The VIN pin supplies current to the LT3640’s internal circuitry and to the high voltage channel internal power switch. This pin must be locally bypassed.", 23 GND (power) "Ground. These pins must be soldered to PCB ground.", 24 VIN2 (power) "The VIN2 pin supplies current to the internal power MOSFET of the low voltage converter and to the LT3640’s internal circuitry when VIN2 is above 3V.", 25 SW2 (power) "Switch Node of the Low Voltage Converter. Connect this pin to an inductor.", 26 GND (power) "Ground. These pins must be soldered to PCB ground.", 27 EN2 (in) "Low Voltage Converter Enable Pin. Pull this pin below 0.3V to shut down the low voltage converter. Pull this pin above 1.5V to enable the low voltage converter.", 28 SS2 (in) "The SS2 pin sets the FB2 voltage externally between 0V and 0.6V, providing soft-start and tracking. Tie this pin 0.8V or higher to use the internal 0.6V reference. A capacitor to ground at this pin sets the ramp time to (See Datasheet)", 29 EP (power) "Ground. These pins must be soldered to PCB ground."

## LT3640IUFD#PBF
designator U?
Dual Monolithic Buck Regulator with Power-On Reset and Watchdog Timer, 28-pin QFN (UFD-28), -40 to 125 degC, Pb-Free; Manufacturer: Linear Technology; PartNumber: LT3640IUFD#PBF; Number of Outputs: 2; PackageReference: UFD-28; PackageDescription: 28-Pin Plastic QFN, Body 5 x 4 mm, Pitch 0.5 mm; Supplier 1: Digi-Key; Supplier Part Number 1: LT3640IUFD#PBF-ND; RoHS: TRUE
footprint LT-UFD-28_N (QFN, 28-Leads, Body 5.1x4.1mm, Pitch 0.5mm, Thermal Pad 3.65x2.65mm, IPC Medium Density)
footprint LT-UFD-28_L (QFN, 28-Leads, Body 5.1x4.1mm, Pitch 0.5mm, Thermal Pad 3.65x2.65mm, IPC High Density)
footprint LT-UFD-28_M (QFN, 28-Leads, Body 5.1x4.1mm, Pitch 0.5mm, Thermal Pad 3.65x2.65mm, IPC Low Density)
pins: 1 SYNC (in) "Driving the SYNC pin with an external clock signal synchronizes both converters to the applied frequency. The lowest external clock frequency should be 20% higher than the internal oscillator frequency.", 2 SS1 (in) "The SS1 pin sets the FB1 voltage externally between 0V and 1.265V, providing soft-start and tracking. Tie this pin 1.5V or higher to use the internal 1.265V reference. A capacitor to ground at this pin sets the ramp time to (See Datasheet)", 3 FB1 (in) "The high voltage converter regulates the FB1 pin to 1.265V. Connect the feedback resistor divider tap to this pin to set output voltage.", 4 RT "Oscillator Resistor Input. Connecting a resistor to ground from this pin sets the internal oscillator frequency.", 5 ~{RST2} (oc) "Open-drain logic output that remains asserted for the period set by the CPOR pin capacitor after FB2 goes above 550mV.", 6 ~{RST1} (oc) "Open-drain logic output that remains asserted for the period set by the CPOR pin capacitor after FB1 goes above 1.165V.", 7 ~{WDO} (oc) "Open-drain logic output that remains asserted for the period set by the CPOR pin capacitor if W\D\E\ is enabled and WDI pin is not driven by an appropriate signal.", 8 CWDT (in) "Connect a capacitor to ground at this pin to set watchdog timer.", 9 CPOR (in) "Connect a capacitor to ground at this pin to set the power-on reset timer and W\D\O\ output timer.", 10 ~{WDE} (in) "Watchdog Enable Pin.", 11 WDI (in) "The WDI pin receives watchdog signals from a microprocessor.", 12 GND (power) "Ground. These pins must be soldered to PCB ground.", 13 GND (power) "Ground. These pins must be soldered to PCB ground.", 14 NC "Not Connected. This pin can be connected to ground.", 15 DA "The DA pin is used to sense the catch diode current for current limit and protection. Connect this pin to catch diode anode.", 16 SW1 (power) "Output of the High Voltage Internal Power Switch. Connect this pin to the inductor and catch diode cathode.", 17 SW "The SW pin is used to charge the boost capacitor. Connect this pin to the boost capacitor.", 18 BST "The BST pin is used to provide a drive voltage, higher than VIN pin voltage, to the high voltage channel internal power switch. Connect an external boost diode to this pin.", 19 VIN (power) "The VIN pin supplies current to the LT3640’s internal circuitry and to the high voltage channel internal power switch. This pin must be locally bypassed.", 20 GND (power) "Ground. These pins must be soldered to PCB ground.", 21 VIN2 (power) "The VIN2 pin supplies current to the internal power MOSFET of the low voltage converter and to the LT3640’s internal circuitry when VIN2 is above 3V.", 22 SW2 (power) "Switch Node of the Low Voltage Converter. Connect this pin to an inductor.", 23 GND (power) "Ground. These pins must be soldered to PCB ground.", 24 EN2 (in) "Low Voltage Converter Enable Pin. Pull this pin below 0.3V to shut down the low voltage converter. Pull this pin above 1.5V to enable the low voltage converter.", 25 SS2 (in) "The SS2 pin sets the FB2 voltage externally between 0V and 0.6V, providing soft-start and tracking. Tie this pin 0.8V or higher to use the internal 0.6V reference. A capacitor to ground at this pin sets the ramp time to (See Datasheet)", 26 FB2 (in) "The low voltage converter regulates the FB2 pin to 600mV. Connect the feedback resistor divider tap to this pin to set output voltage.", 27 ~{PGOOD} (oc) "Open-drain logic output that starts to sink current when FB2 is in regulation.", 28 EN/UVLO (in) "Pull this pin below 0.3V to shut down the LT3640. The 1.26V threshold can function as an accurate undervoltage lockout, preventing the LT3640 from operating until VIN voltage has reached the programmed level.", 29 EP (power) "Ground. These pins must be soldered to PCB ground."